# EAGLE library part LM393D (library lm393d)
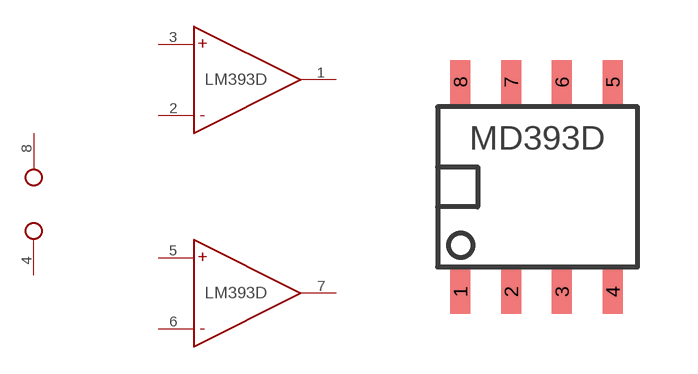
[diagram p0: symbol with the pads of LM393D; footprint LM393D]

Designator prefix -; gates G$1=PSUPLY G$2=LM393D G$3=LM393D

## LM393D  [LM393D]
1  G$2:OUT  out
2  G$2:IN-  in
3  G$2:IN+  in
4  G$1:GND  pwr
5  G$3:IN+  in
6  G$3:IN-  in
7  G$3:OUT  out
8  G$1:VCC  pwr

## Footprint LM393D (pad centres in mm)
smd 0.5 x 1.1: 1 -1.97,-1.89; 2 -0.7,-1.89; 3 0.57,-1.89; 4 1.84,-1.89; 5 1.84,3.35; 6 0.57,3.35; 7 -0.7,3.35; 8 -1.97,3.35